# Altium footprint library Apollo.PcbLib: 48 footprints (part 3 of 3)
Each footprint in its own frame and in the unit in brackets; x right, y up, seen from the top. Pads: shape width x height; smd on the part's side, far side on the other; paste and mask are expansions set on the pad; w line width, h text height; cw(c..) or ccw(c..) is an arc to the next point about the centre after c.
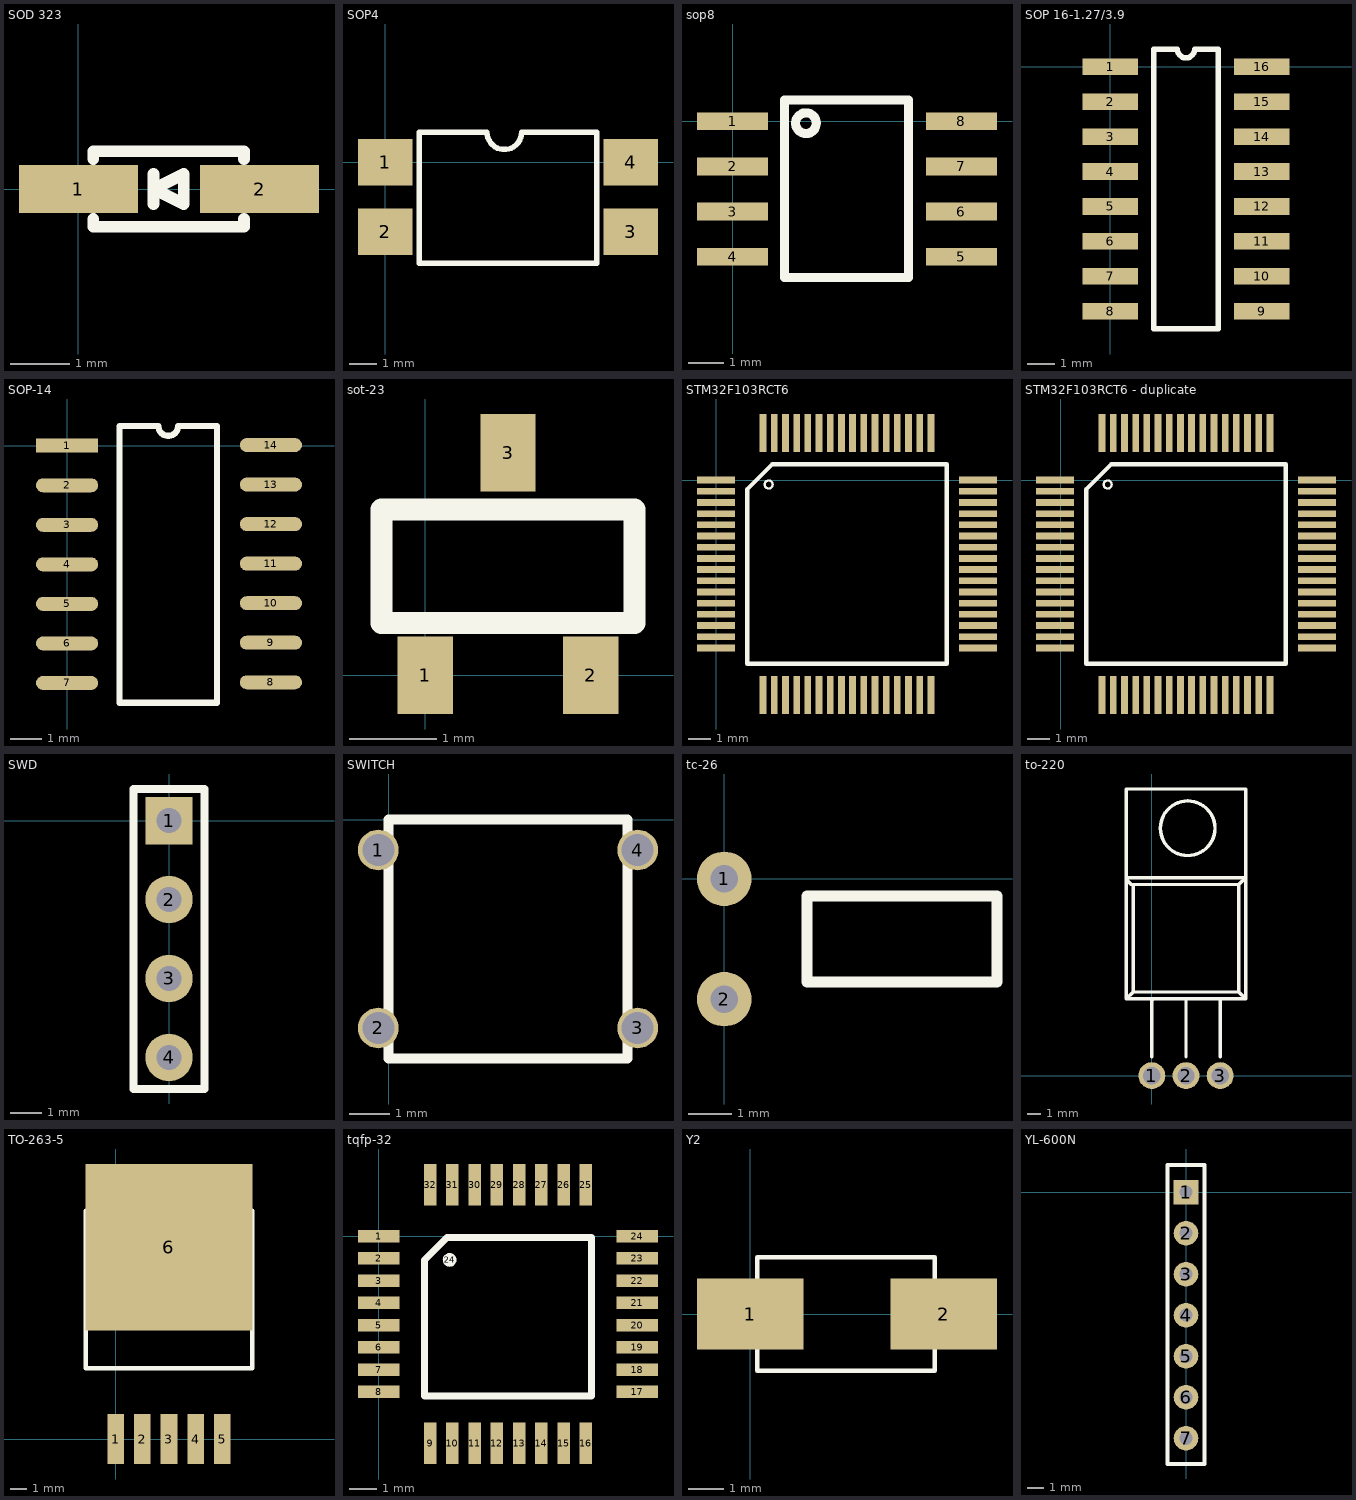
[diagram p2: the footprints below, top view; thin cyan lines are the x and y axes]

## SOD 323 [mm]
height 2.65
pads (2):
  rect 2x0.8 smd: 1(0,0) 2(3.05,0)
Top Overlay:
  lines w0.2: 0.25,-0.508 0.25,-0.635 2.79,-0.635 2.79,-0.508 ; 0.25,0.508 0.25,0.635 ; 1.266,-0.254 1.266,0.254 ; 1.52,0.635 0.25,0.635 ; 2.79,0.508 2.79,0.635 0.25,0.635 ; 1.266,0 1.774,-0.254 1.774,0.254 1.266,0

## SOP4 [mm]
pads (4):
  rect 2x1.7 smd: 1(0,0) 2(0,-2.55) 3(9,-2.55) 4(9,0)
Top Overlay:
  lines w0.2: 3.645,1.1 1.25,1.1 1.25,-3.7 7.75,-3.7 7.75,1.1 5.255,1.1 5,1.1 cw(c4.365,1.1) 3.73,1.1

## sop8 [mm]
pads (8):
  rect 2x0.5 smd: 1(0,0) 2(0,-1.27) 3(0,-2.54) 4(0,-3.81) 5(6.45,-3.81) 6(6.45,-2.54) 7(6.45,-1.27) 8(6.45,0)
Top Overlay:
  circle w0.254: c2.068,-0.05 r0.292
  lines w0.254: 1.46,-4.4 4.96,-4.4 4.96,0.6 1.46,0.6 1.46,-4.4

## SOP 16-1.27/3.9 [mm] "150mil body,"
height 2.65
pads (16):
  rect 2x0.6 smd: 1(0,0) 2(0,-1.27) 3(0,-2.54) 4(0,-3.81) 5(0,-5.08) 6(0,-6.35) 7(0,-7.62) 8(0,-8.89) 9(5.5,-8.89) 10(5.5,-7.62) 11(5.5,-6.35) 12(5.5,-5.08) 13(5.5,-3.81) 14(5.5,-2.54) 15(5.5,-1.27) 16(5.5,0)
Top Overlay:
  lines w0.2: 1.585,-9.525 3.915,-9.525 3.915,0.635 3.067,0.635 cw(c2.75,0.635) 2.432,0.635 1.585,0.635 1.585,-9.525

## SOP-14 [mm]
pads (14):
  rect 2x0.45 smd: 1(0,0)
  oval 2x0.45 smd: 2(0,-1.27) 3(0,-2.54) 4(0,-3.81) 5(0,-5.08) 6(0,-6.35) 7(0,-7.62) 8(6.55,-7.6) 9(6.55,-6.33) 10(6.55,-5.06) 11(6.55,-3.79) 12(6.55,-2.52) 13(6.55,-1.25) 14(6.55,0.02)
Top Overlay:
  lines w0.2: 1.685,-8.255 1.685,0.635 2.932,0.635 ccw(c3.25,0.635) 3.567,0.635 4.815,0.635 4.815,-8.255 1.685,-8.255

## sot-23 [mil]
pads (3):
  rect 25x35 smd: 1(0,0) 2(74.8,0) 3(37.4,100.39)
Top Overlay:
  lines w10: 37.4,74.8 -19.69,74.8 ; 39.37,74.8 -19.69,74.8 ; -19.69,74.8 -19.69,23.62 94.49,23.62 94.49,74.8 -19.69,74.8

## STM32F103RCT6 [mm]
pads (64):
  rect 1.7x0.3 smd: 1(0,0) 2(0,-0.5) 3(0,-1) 4(0,-1.5) 5(0,-2) 6(0,-2.5) 7(0,-3) 8(0,-3.5) 9(0,-4) 10(0,-4.5) 11(0,-5) 12(0,-5.5) 13(0,-6) 14(0,-6.5) 15(0,-7) 16(0,-7.5) 33(11.7,-7.5) 34(11.7,-7) 35(11.7,-6.5) 36(11.7,-6) 37(11.7,-5.5) 38(11.7,-5) 39(11.7,-4.5) 40(11.7,-4) 41(11.7,-3.5) 42(11.7,-3) 43(11.7,-2.5) 44(11.7,-2) 45(11.7,-1.5) 46(11.7,-1) 47(11.7,-0.5) 48(11.7,0)
  rect 0.3x1.7 smd: 17(2.1,-9.6) 18(2.6,-9.6) 19(3.1,-9.6) 20(3.6,-9.6) 21(4.1,-9.6) 22(4.6,-9.6) 23(5.1,-9.6) 24(5.6,-9.6) 25(6.1,-9.6) 26(6.6,-9.6) 27(7.1,-9.6) 28(7.6,-9.6) 29(8.1,-9.6) 30(8.6,-9.6) 31(9.1,-9.6) 32(9.6,-9.6) 49(9.6,2.1) 50(9.1,2.1) 51(8.6,2.1) 52(8.1,2.1) 53(7.6,2.1) 54(7.1,2.1) 55(6.6,2.1) 56(6.1,2.1) 57(5.6,2.1) 58(5.1,2.1) 59(4.6,2.1) 60(4.1,2.1) 61(3.6,2.1) 62(3.1,2.1) 63(2.6,2.1) 64(2.1,2.1)
Top Overlay:
  circle w0.1: c2.35,-0.2 r0.18
  lines w0.2: 1.385,-8.215 1.385,-0.42 2.52,0.715 10.315,0.715 10.315,-8.215 1.385,-8.215

## STM32F103RCT6 - duplicate [mm]
pads (64):
  rect 1.7x0.3 smd: 1(-0.25,0) 2(-0.25,-0.5) 3(-0.25,-1) 4(-0.25,-1.5) 5(-0.25,-2) 6(-0.25,-2.5) 7(-0.25,-3) 8(-0.25,-3.5) 9(-0.25,-4) 10(-0.25,-4.5) 11(-0.25,-5) 12(-0.25,-5.5) 13(-0.25,-6) 14(-0.25,-6.5) 15(-0.25,-7) 16(-0.25,-7.5) 33(11.45,-7.5) 34(11.45,-7) 35(11.45,-6.5) 36(11.45,-6) 37(11.45,-5.5) 38(11.45,-5) 39(11.45,-4.5) 40(11.45,-4) 41(11.45,-3.5) 42(11.45,-3) 43(11.45,-2.5) 44(11.45,-2) 45(11.45,-1.5) 46(11.45,-1) 47(11.45,-0.5) 48(11.45,0)
  rect 0.3x1.7 smd: 17(1.85,-9.6) 18(2.35,-9.6) 19(2.85,-9.6) 20(3.35,-9.6) 21(3.85,-9.6) 22(4.35,-9.6) 23(4.85,-9.6) 24(5.35,-9.6) 25(5.85,-9.6) 26(6.35,-9.6) 27(6.85,-9.6) 28(7.35,-9.6) 29(7.85,-9.6) 30(8.35,-9.6) 31(8.85,-9.6) 32(9.35,-9.6) 49(9.35,2.1) 50(8.85,2.1) 51(8.35,2.1) 52(7.85,2.1) 53(7.35,2.1) 54(6.85,2.1) 55(6.35,2.1) 56(5.85,2.1) 57(5.35,2.1) 58(4.85,2.1) 59(4.35,2.1) 60(3.85,2.1) 61(3.35,2.1) 62(2.85,2.1) 63(2.35,2.1) 64(1.85,2.1)
Top Overlay:
  circle w0.1: c2.1,-0.2 r0.18
  lines w0.2: 1.135,-8.215 10.065,-8.215 10.065,0.715 2.27,0.715 1.135,-0.42 1.135,-8.215

## SWD [mil]
pads (4):
  rect 60x60 hole 32: 1(0,0)
  round 60 hole 32: 2(0,-100) 3(0,-200) 4(0,-300)
Top Overlay:
  lines w10: -45,-340 45,-340 45,40 -45,40 -45,-340

## SWITCH [mil]
pads (4):
  round 40 hole 31.5: 1(-10,-30) 2(-10,-205) 3(245,-205) 4(245,-30)
Top Overlay:
  lines w10: 0,-225 0,-235 235,-235 235,0 0,0 ; 0,-225 0,0 ; 0,-225 0,-200 0,0

## tc-26 [mm]
pads (2):
  round 1.27 hole 0.635: 1(0,0) 2(0,-2.8)
Top Overlay:
  lines w0.254: 1.924,-2.4 6.35,-2.4 6.35,-0.4 1.924,-0.4 1.924,-2.4

## to-220 [mm]
pads (3):
  round 2 hole 1.3: 1(0,0) 2(2.54,0) 3(5.08,0)
Top Overlay:
  circle w0.254: c2.667,18.415 r2.032
  lines w0.254: -1.905,14.605 -1.524,14.224 -1.397,14.224 ; -1.905,14.732 6.985,14.732 6.477,14.224 ; 0,1.397 0,2.54 0,5.588 0.127,5.715 ; 2.54,1.397 2.54,2.54 2.54,5.715 ; 5.08,1.397 5.08,2.54 5.08,5.715 ; -1.905,5.715 -1.905,21.336 6.985,21.336 6.985,5.715 ; -1.905,5.715 5.08,5.715 ; -1.905,5.715 -1.397,6.223 ; -1.397,6.223 -1.397,14.224 ; -1.397,6.223 6.477,6.223 ; -1.397,14.224 6.477,14.224 ; 5.08,5.715 6.985,5.715 ; 6.477,6.223 6.477,14.224 ; 6.477,6.223 6.985,5.715

## TO-263-5 [mm]
pads (6):
  rect 1x3 smd: 1(0,0) 2(1.6,0) 3(3.2,0) 4(4.8,0) 5(6.4,0)
  rect 10x10 smd: 6(3.2,11.5)
Top Overlay:
  lines w0.254: -1.8,4.242 -1.8,13.7 8.2,13.7 8.2,4.242 -1.8,4.242

## tqfp-32 [mm]
pads (33):
  rect 1.5x0.45 smd: 1(0,0) 2(0,-0.8) 3(0,-1.6) 4(0,-2.4) 5(0,-3.2) 6(0,-4) 7(0,-4.8) 8(0,-5.6) 17(9.3,-5.6) 18(9.3,-4.8) 19(9.3,-4) 20(9.3,-3.2) 21(9.3,-2.4) 22(9.3,-1.6) 23(9.3,-0.8) 24(9.3,0)
  rect 0.45x1.5 smd: 9(1.85,-7.45) 10(2.65,-7.45) 11(3.45,-7.45) 12(4.25,-7.45) 13(5.05,-7.45) 14(5.85,-7.45) 15(6.65,-7.45) 16(7.45,-7.45) 25(7.45,1.85) 26(6.65,1.85) 27(5.85,1.85) 28(5.05,1.85) 29(4.25,1.85) 30(3.45,1.85) 31(2.65,1.85) 32(1.85,1.85)
  round 0.5 on Top Overlay: 24(2.55,-0.85)
Top Overlay:
  lines w0.254: 1.65,-5.75 7.65,-5.75 7.65,-0.05 2.45,-0.05 1.65,-0.85 1.65,-5.75

## Y2 [mm]
pads (2):
  rect 3x2 smd: 1(0,0) 2(5.45,0)
Top Overlay:
  lines w0.127: 0.2,-1.6 5.2,-1.6 5.2,1.6 0.2,1.6 0.2,-0.35 0.2,-1.6

## YL-600N [mil]
pads (7):
  rect 60x60 hole 32: 1(0,0)
  round 60 hole 32: 2(0,-100.39) 3(0,-200.79) 4(0,-301.18) 5(0,-401.57) 6(0,-501.97) 7(0,-602.36)
Top Overlay:
  lines w5: 35.43,68.9 43.03,68.9 45,66.93
  lines w10: -45,-665.35 -45,66.93 45,66.93 45,-665.35 -45,-665.35